# EAGLE library part MINIPCI_TYPE_III (library con-minipci)
Footprint and pinout are based on the official Mini PCI Specification <http://read.pudn.com/downloads61/doc/210851/MiniPCI.pdf> (Revision 1.0 October 25, 1999).
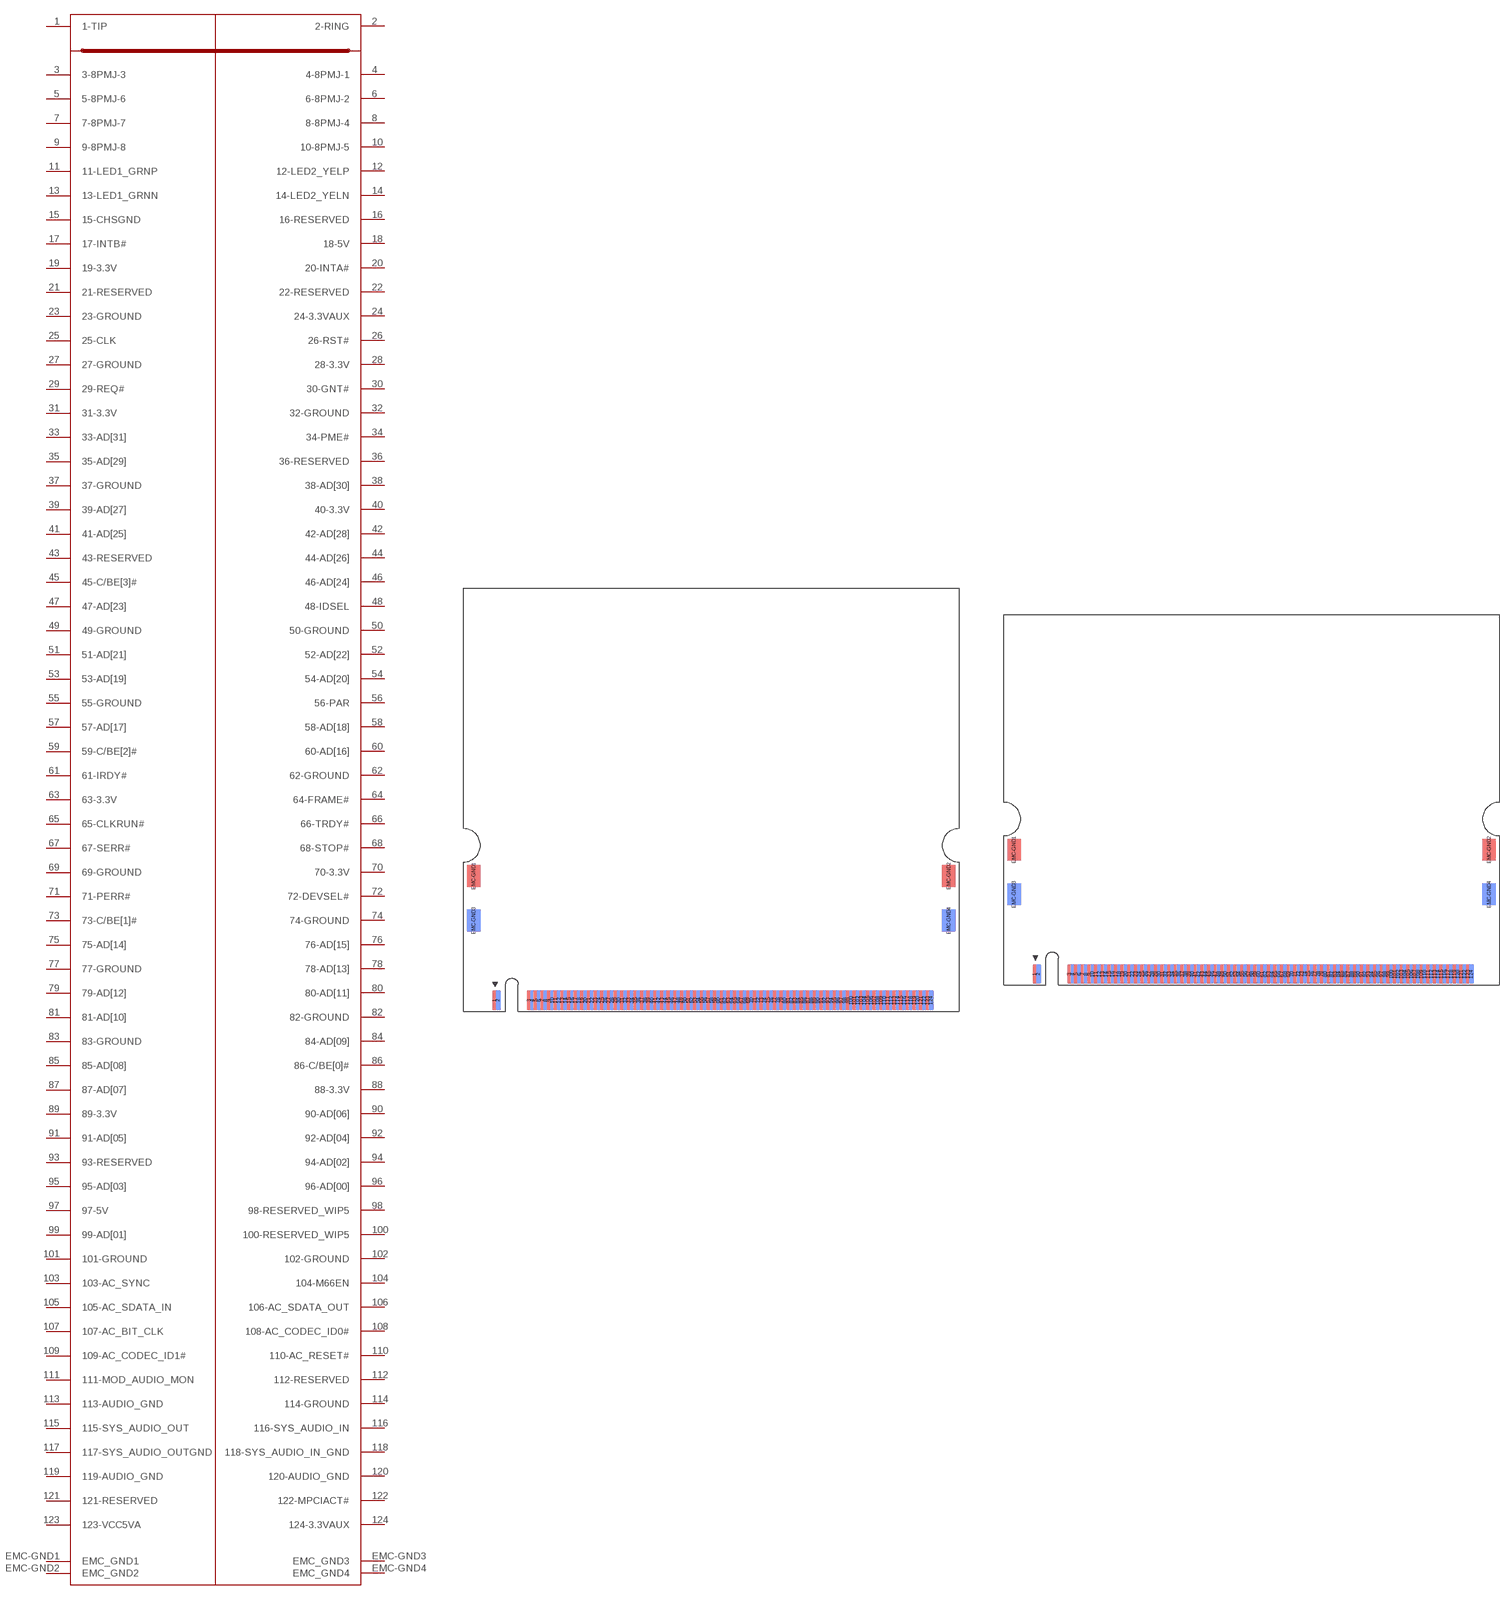
[diagram p0: symbol with the pads of MINIPCI_TYPE_IIIA; footprints MINIPCI_TYPE_IIIA, MINIPCI_TYPE_IIIB]

Designator prefix -

## MINIPCI_TYPE_IIIA  [MINIPCI_TYPE_IIIA]
1  1-TIP
2  2-RING
3  3-8PMJ-3
4  4-8PMJ-1
5  5-8PMJ-6
6  6-8PMJ-2
7  7-8PMJ-7
8  8-8PMJ-4
9  9-8PMJ-8
10  10-8PMJ-5
11  11-LED1_GRNP
12  12-LED2_YELP
13  13-LED1_GRNN
14  14-LED2_YELN
15  15-CHSGND
16  16-RESERVED
17  17-INTB#
18  18-5V
19  19-3.3V
20  20-INTA#
21  21-RESERVED
22  22-RESERVED
23  23-GROUND
24  24-3.3VAUX
25  25-CLK
26  26-RST#
27  27-GROUND
28  28-3.3V
29  29-REQ#
30  30-GNT#
31  31-3.3V
32  32-GROUND
33  33-AD[31]
34  34-PME#
35  35-AD[29]
36  36-RESERVED
37  37-GROUND
38  38-AD[30]
39  39-AD[27]
40  40-3.3V
41  41-AD[25]
42  42-AD[28]
43  43-RESERVED
44  44-AD[26]
45  45-C/BE[3]#
46  46-AD[24]
47  47-AD[23]
48  48-IDSEL
49  49-GROUND
50  50-GROUND
51  51-AD[21]
52  52-AD[22]
53  53-AD[19]
54  54-AD[20]
55  55-GROUND
56  56-PAR
57  57-AD[17]
58  58-AD[18]
59  59-C/BE[2]#
60  60-AD[16]
61  61-IRDY#
62  62-GROUND
63  63-3.3V
64  64-FRAME#
65  65-CLKRUN#
66  66-TRDY#
67  67-SERR#
68  68-STOP#
69  69-GROUND
70  70-3.3V
71  71-PERR#
72  72-DEVSEL#
73  73-C/BE[1]#
74  74-GROUND
75  75-AD[14]
76  76-AD[15]
77  77-GROUND
78  78-AD[13]
79  79-AD[12]
80  80-AD[11]
81  81-AD[10]
82  82-GROUND
83  83-GROUND
84  84-AD[09]
85  85-AD[08]
86  86-C/BE[0]#
87  87-AD[07]
88  88-3.3V
89  89-3.3V
90  90-AD[06]
91  91-AD[05]
92  92-AD[04]
93  93-RESERVED
94  94-AD[02]
95  95-AD[03]
96  96-AD[00]
97  97-5V
98  98-RESERVED_WIP5
99  99-AD[01]
100  100-RESERVED_WIP5
101  101-GROUND
102  102-GROUND
103  103-AC_SYNC
104  104-M66EN
105  105-AC_SDATA_IN
106  106-AC_SDATA_OUT
107  107-AC_BIT_CLK
108  108-AC_CODEC_ID0#
109  109-AC_CODEC_ID1#
110  110-AC_RESET#
111  111-MOD_AUDIO_MON
112  112-RESERVED
113  113-AUDIO_GND
114  114-GROUND
115  115-SYS_AUDIO_OUT
116  116-SYS_AUDIO_IN
117  117-SYS_AUDIO_OUTGND
118  118-SYS_AUDIO_IN_GND
119  119-AUDIO_GND
120  120-AUDIO_GND
121  121-RESERVED
122  122-MPCIACT#
123  123-VCC5VA
124  124-3.3VAUX
EMC-GND1  EMC_GND1
EMC-GND2  EMC_GND2
EMC-GND3  EMC_GND3
EMC-GND4  EMC_GND4

## MINIPCI_TYPE_IIIB  [MINIPCI_TYPE_IIIB]
Pads as for MINIPCI_TYPE_IIIA

## Footprint MINIPCI_TYPE_IIIA (pad centres in mm)
Footprint is based on the official Mini PCI Specification <http://read.pudn.com/downloads61/doc/210851/MiniPCI.pdf> (Revision 1.0 October 25, 1999). Page: 53..61 (Mechanical Design Details)
smd 0.6 x 2.4: 1 3.75,1.35; 3 7.9,1.35; 5 8.7,1.35; 7 9.5,1.35; 9 10.3,1.35; 11 11.1,1.35; 13 11.9,1.35; 15 12.7,1.35; 17 13.5,1.35; 19 14.3,1.35; 21 15.1,1.35; 23 15.9,1.35; 25 16.7,1.35; 27 17.5,1.35; 29 18.3,1.35; 31 19.1,1.35; 33 19.9,1.35; 35 20.7,1.35; 37 21.5,1.35; 39 22.3,1.35; 41 23.1,1.35; 43 23.9,1.35; 45 24.7,1.35; 47 25.5,1.35; 49 26.3,1.35; 51 27.1,1.35; 53 27.9,1.35; 55 28.7,1.35; 57 29.5,1.35; 59 30.3,1.35; 61 31.1,1.35; 63 31.9,1.35; 65 32.7,1.35; 67 33.5,1.35; 69 34.3,1.35; 71 35.1,1.35; 73 35.9,1.35; 75 36.7,1.35; 77 37.5,1.35; 79 38.3,1.35; 81 39.1,1.35; 83 39.9,1.35; 85 40.7,1.35; 87 41.5,1.35; 89 42.3,1.35; 91 43.1,1.35; 93 43.9,1.35; 95 44.7,1.35; 97 45.5,1.35; 99 46.3,1.35; 101 47.1,1.35; 103 47.9,1.35; 105 48.7,1.35; 107 49.5,1.35; 109 50.3,1.35; 111 51.1,1.35; 113 51.9,1.35; 115 52.7,1.35; 117 53.5,1.35; 119 54.3,1.35; 121 55.1,1.35; 123 55.9,1.35
smd 0.6 x 2.4 bottom: 2 4.15,1.35; 4 8.3,1.35; 6 9.1,1.35; 8 9.9,1.35; 10 10.7,1.35; 12 11.5,1.35; 14 12.3,1.35; 16 13.1,1.35; 18 13.9,1.35; 20 14.7,1.35; 22 15.5,1.35; 24 16.3,1.35; 26 17.1,1.35; 28 17.9,1.35; 30 18.7,1.35; 32 19.5,1.35; 34 20.3,1.35; 36 21.1,1.35; 38 21.9,1.35; 40 22.7,1.35; 42 23.5,1.35; 44 24.3,1.35; 46 25.1,1.35; 48 25.9,1.35; 50 26.7,1.35; 52 27.5,1.35; 54 28.3,1.35; 56 29.1,1.35; 58 29.9,1.35; 60 30.7,1.35; 62 31.5,1.35; 64 32.3,1.35; 66 33.1,1.35; 68 33.9,1.35; 70 34.7,1.35; 72 35.5,1.35; 74 36.3,1.35; 76 37.1,1.35; 78 37.9,1.35; 80 38.7,1.35; 82 39.5,1.35; 84 40.3,1.35; 86 41.1,1.35; 88 41.9,1.35; 90 42.7,1.35; 92 43.5,1.35; 94 44.3,1.35; 96 45.1,1.35; 98 45.9,1.35; 100 46.7,1.35; 102 47.5,1.35; 104 48.3,1.35; 106 49.1,1.35; 108 49.9,1.35; 110 50.7,1.35; 112 51.5,1.35; 114 52.3,1.35; 116 53.1,1.35; 118 53.9,1.35; 120 54.7,1.35; 122 55.5,1.35; 124 56.3,1.35
smd 1.62 x 2.62: EMC-GND1 1.19,16.31; EMC-GND2 58.41,16.31
smd 1.62 x 2.62 bottom: EMC-GND3 1.19,10.935; EMC-GND4 58.41,10.935

## Footprint MINIPCI_TYPE_IIIB (pad centres in mm)
Footprint is based on the official Mini PCI Specification <http://read.pudn.com/downloads61/doc/210851/MiniPCI.pdf> (Revision 1.0 October 25, 1999). Page: 53..61 (Mechanical Design Details)
smd 0.6 x 2.4: 1 3.75,1.35; 3 7.9,1.35; 5 8.7,1.35; 7 9.5,1.35; 9 10.3,1.35; 11 11.1,1.35; 13 11.9,1.35; 15 12.7,1.35; 17 13.5,1.35; 19 14.3,1.35; 21 15.1,1.35; 23 15.9,1.35; 25 16.7,1.35; 27 17.5,1.35; 29 18.3,1.35; 31 19.1,1.35; 33 19.9,1.35; 35 20.7,1.35; 37 21.5,1.35; 39 22.3,1.35; 41 23.1,1.35; 43 23.9,1.35; 45 24.7,1.35; 47 25.5,1.35; 49 26.3,1.35; 51 27.1,1.35; 53 27.9,1.35; 55 28.7,1.35; 57 29.5,1.35; 59 30.3,1.35; 61 31.1,1.35; 63 31.9,1.35; 65 32.7,1.35; 67 33.5,1.35; 69 34.3,1.35; 71 35.1,1.35; 73 35.9,1.35; 75 36.7,1.35; 77 37.5,1.35; 79 38.3,1.35; 81 39.1,1.35; 83 39.9,1.35; 85 40.7,1.35; 87 41.5,1.35; 89 42.3,1.35; 91 43.1,1.35; 93 43.9,1.35; 95 44.7,1.35; 97 45.5,1.35; 99 46.3,1.35; 101 47.1,1.35; 103 47.9,1.35; 105 48.7,1.35; 107 49.5,1.35; 109 50.3,1.35; 111 51.1,1.35; 113 51.9,1.35; 115 52.7,1.35; 117 53.5,1.35; 119 54.3,1.35; 121 55.1,1.35; 123 55.9,1.35
smd 0.6 x 2.4 bottom: 2 4.15,1.35; 4 8.3,1.35; 6 9.1,1.35; 8 9.9,1.35; 10 10.7,1.35; 12 11.5,1.35; 14 12.3,1.35; 16 13.1,1.35; 18 13.9,1.35; 20 14.7,1.35; 22 15.5,1.35; 24 16.3,1.35; 26 17.1,1.35; 28 17.9,1.35; 30 18.7,1.35; 32 19.5,1.35; 34 20.3,1.35; 36 21.1,1.35; 38 21.9,1.35; 40 22.7,1.35; 42 23.5,1.35; 44 24.3,1.35; 46 25.1,1.35; 48 25.9,1.35; 50 26.7,1.35; 52 27.5,1.35; 54 28.3,1.35; 56 29.1,1.35; 58 29.9,1.35; 60 30.7,1.35; 62 31.5,1.35; 64 32.3,1.35; 66 33.1,1.35; 68 33.9,1.35; 70 34.7,1.35; 72 35.5,1.35; 74 36.3,1.35; 76 37.1,1.35; 78 37.9,1.35; 80 38.7,1.35; 82 39.5,1.35; 84 40.3,1.35; 86 41.1,1.35; 88 41.9,1.35; 90 42.7,1.35; 92 43.5,1.35; 94 44.3,1.35; 96 45.1,1.35; 98 45.9,1.35; 100 46.7,1.35; 102 47.5,1.35; 104 48.3,1.35; 106 49.1,1.35; 108 49.9,1.35; 110 50.7,1.35; 112 51.5,1.35; 114 52.3,1.35; 116 53.1,1.35; 118 53.9,1.35; 120 54.7,1.35; 122 55.5,1.35; 124 56.3,1.35
smd 1.62 x 2.62: EMC-GND1 1.19,16.31; EMC-GND2 58.41,16.31
smd 1.62 x 2.62 bottom: EMC-GND3 1.19,10.935; EMC-GND4 58.41,10.935